# Altium integrated library Bourns  Resistor Arrays.IntLib: 2 symbols
Pins are listed as number, name and electrical type; pins without a type are passive.

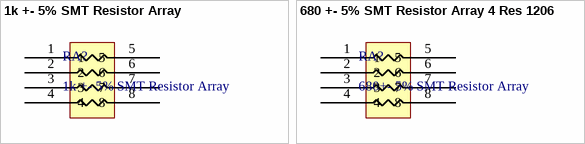
[diagram p0: symbols 1k +- 5% SMT Resistor Array to 680 +- 5% SMT Resistor Array 4 Res 1206]

## 1k +- 5% SMT Resistor Array
designator RA?
1k +- 5% SMT Resistor Array 4 Res; Manufacturer: Bourns; Manufacturer Part No.: CAY16-102J4LF; Wattage: 0.25W; Creator: R Kanjee; RS Stock No.: 552-5579; Date Created: 25 February 2015
footprint 1206 RA
pins: 1, 2, 3, 4, 5, 6, 7, 8

## 680 +- 5% SMT Resistor Array 4 Res 1206
designator RA?, comment 680+- 5% SMT Resistor Array
680 +- 5% SMT Resistor Array 4 Res 1206; Manufacturer: Bourns; Manufacturer Part No.: CAY16-681J4LF; Wattage: 0.25W; Creator: R Kanjee; RS Stock No.: 552-5579; Date Created: 25 February 2015
footprint 1206 RA
pins: 1, 2, 3, 4, 5, 6, 7, 8